# EAGLE library part MAX3238 (library maxim)
RS232 TRANSEIVER
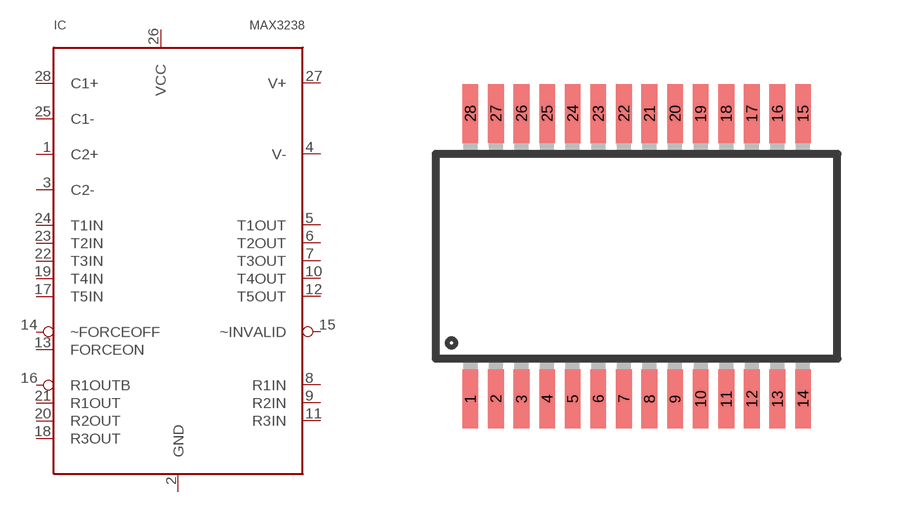
[diagram p390: symbol with the pads of SSOP28; footprint SSOP28]

Designator prefix IC

## MAX3238  [SSOP28]
1  C2+  pas
2  GND  pas
3  C2-  pas
4  V-  pas
5  T1OUT  pas
6  T2OUT  pas
7  T3OUT  pas
8  R1IN  pas
9  R2IN  pas
10  T4OUT  pas
11  R3IN  pas
12  T5OUT  pas
13  FORCEON  pas
14  ~FORCEOFF  pas
15  ~INVALID  pas
16  R1OUTB  pas
17  T5IN  pas
18  R3OUT  pas
19  T4IN  pas
20  R2OUT  pas
21  R1OUT  pas
22  T3IN  pas
23  T2IN  pas
24  T1IN  pas
25  C1-  pas
26  VCC  pas
27  V+  pas
28  C1+  pas

## Footprint SSOP28 (pad centres in mm)
Shrink Small Outline Package package type SS
smd 0.4 x 1.5: 1 -4.225,-3.625; 2 -3.575,-3.625; 3 -2.925,-3.625; 4 -2.275,-3.625; 5 -1.625,-3.625; 6 -0.975,-3.625; 7 -0.325,-3.625; 8 0.325,-3.625; 9 0.975,-3.625; 10 1.625,-3.625; 11 2.275,-3.625; 12 2.925,-3.625; 13 3.575,-3.625; 14 4.225,-3.625; 15 4.225,3.625; 16 3.575,3.625; 17 2.925,3.625; 18 2.275,3.625; 19 1.625,3.625; 20 0.975,3.625; 21 0.325,3.625; 22 -0.325,3.625; 23 -0.975,3.625; 24 -1.625,3.625; 25 -2.275,3.625; 26 -2.925,3.625; 27 -3.575,3.625; 28 -4.225,3.625